# Altium footprint library Miscellaneous Devices.PcbLib: 155 footprints (part 2 of 10)
Each footprint in its own frame and in the unit in brackets; x right, y up, seen from the top. Pads: shape width x height; smd on the part's side, far side on the other; paste and mask are expansions set on the pad; w line width, h text height; cw(c..) or ccw(c..) is an arc to the next point about the centre after c.
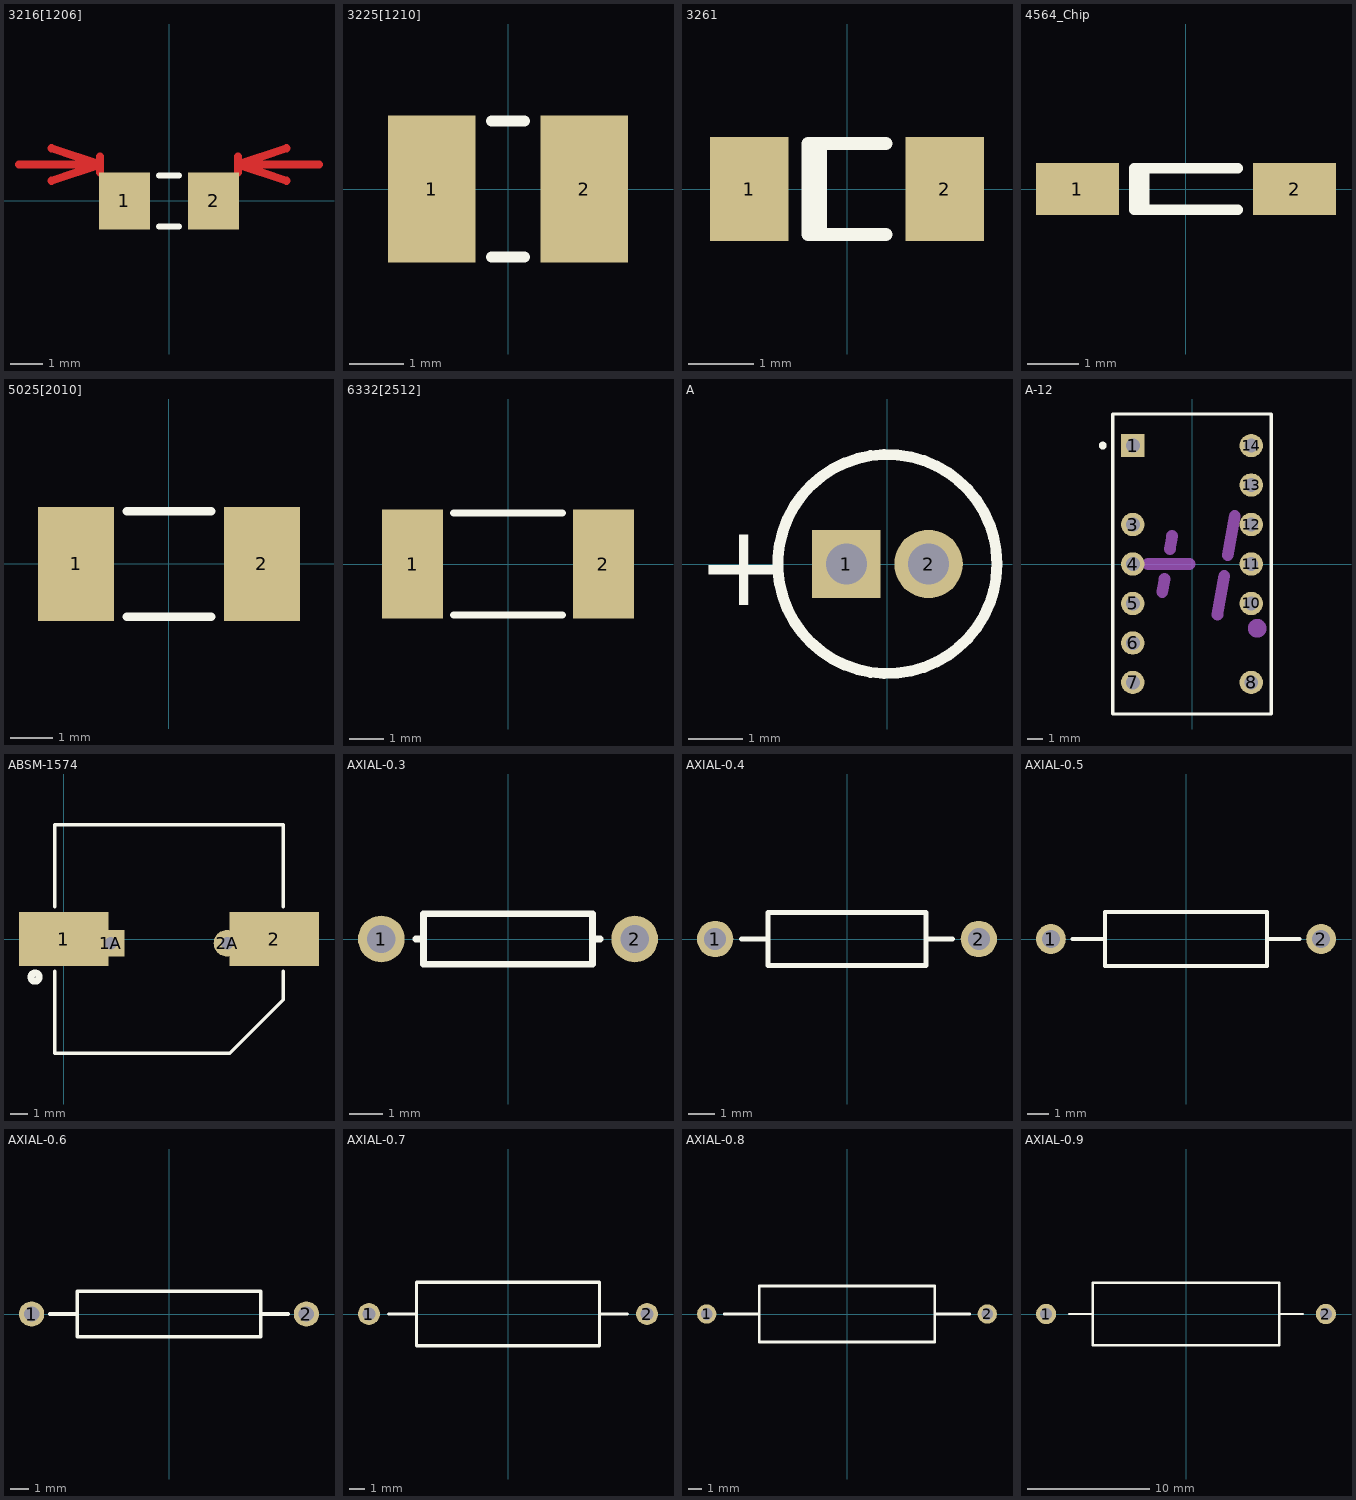
[diagram p1: the footprints below, top view; thin cyan lines are the x and y axes]

## 3216[1206] [mm] "Chip Resistor; Body 3.2 x 1.6 mm (LxW typ)"
height 2.54
pads (2):
  rect 1.6x1.8 smd: 1(-1.4,0) 2(1.4,0)
Top Layer:
  lines w0.254: -4.699,1.143 -2.159,1.143 ; -3.683,0.635 -2.159,1.143 ; -3.683,1.651 -2.159,1.143 ; -2.159,0.889 -2.159,1.397 ; 2.159,0.889 2.159,1.397 ; 3.683,0.635 2.159,1.143 ; 3.683,1.651 2.159,1.143 ; 4.699,1.143 2.159,1.143
  text "170 (mil)" at -5.993,-2.514 h1.52
Top Overlay:
  lines w0.2: -0.3,-0.8 0.3,-0.8 ; -0.3,0.8 0.3,0.8

## 3225[1210] [mm] "Chip Resistor; Body 3.2 x 2.5 mm (LxW typ)"
height 0.6
pads (2):
  rect 1.6x2.7 smd: 1(-1.4,0) 2(1.4,0)
Top Overlay:
  lines w0.2: -0.3,-1.25 0.3,-1.25 ; -0.3,1.25 0.3,1.25

## 3261 [mm] "3216 Chip; Chip Inductor; Body 3.2 x 1.6 mm (LxW typ)"
height 0.55
pads (2):
  rect 1.2x1.6 smd: 1(-1.5,0) 2(1.5,0)
Top Overlay:
  lines w0.2: -0.41,-0.7 -0.41,0.7 ; 0.6,-0.7 -0.6,-0.7 -0.6,0.7 0.6,0.7

## 4564_Chip [mm] "4564 Chip; Chip Inductor; Body 4.5 x 6.4 mm (LxW typ)"
height 0.55
pads (2):
  rect 1.6x1 smd: 1(-2.1,0) 2(2.1,0)
Top Overlay:
  lines w0.2: -0.81,-0.4 -0.81,0.4 ; 1,-0.4 -1,-0.4 -1,0.4 1,0.4

## 5025[2010] [mm] "Chip Resistor; Body 5.0 x 2.5 mm (LxW typ)"
height 0.6
pads (2):
  rect 1.8x2.7 smd: 1(-2.2,0) 2(2.2,0)
Top Overlay:
  lines w0.2: -1,-1.25 1,-1.25 ; -1,1.25 1,1.25

## 6332[2512] [mm] "Chip Resistor; Body 6.3 x 3.2 mm (LxW typ)"
height 0.6
pads (2):
  rect 1.8x3.2 smd: 1(-2.8,0) 2(2.8,0)
Top Overlay:
  lines w0.2: -1.6,-1.5 1.6,-1.5 ; -1.6,1.5 1.6,1.5

## A [mm] "Capacitor, Electrolytic, Radial; Body 4 x 5 mm (Dia.xH typ); Pin Spacing 1.5 mm (typ)"
pads (2):
  rect 1.25x1.25 hole 0.75: 1(-0.75,0)
  round 1.25 hole 0.75: 2(0.75,0)
Top Overlay:
  circle w0.2: c0,0 r2
  text "+" at -3.475,-0.75 h1.5

## A-12 [mm] "LED, Universal ±1 Overflow, 7.62 mm, RHD; 14 Leads (2 Absent); Row Space 7.62 mm; Pitch 2.54 mm"
height 6.35
pads (12):
  rect 1.5x1.5 hole 0.9: 1(-3.81,7.62)
  round 1.5 hole 0.9: 3(-3.81,2.54) 4(-3.81,0) 5(-3.81,-2.54) 6(-3.81,-5.08) 7(-3.81,-7.62) 8(3.81,-7.62) 10(3.81,-2.54) 11(3.81,0) 12(3.81,2.54) 13(3.81,5.08) 14(3.81,7.62)
Top Overlay:
  circle w0.25: c-5.75,7.62 r0.125
  lines w0.2: -5.1,-9.65 5.1,-9.65 5.1,9.65 -5.1,9.65 -5.1,-9.65
Mechanical 1:
  circle w0.86: c4.19,-4.139 r0.17
  lines w0.762: -2.83,0 -0.17,0 ; -1.911,-1.799 -1.764,-0.962 ; -1.427,0.961 -1.28,1.8 ; 1.63,-3.262 2.071,-0.764 ; 2.303,0.565 2.747,3.084

## ABSM-1574 [mm] "Magnetic Transducer Buzzer"
pads (4):
  rect 5x3 smd: 1(0,0) 2(11.8,0)
  rect 1.5x1.5 hole 0.7: 1A(2.65,-0.24)
  round 1.5 hole 0.7: 2A(9.15,-0.24)
Top Overlay:
  circle w0.4: c-1.6,-2.134 r0.227
  lines w0.2: -0.5,-1.8 -0.5,-6.4 9.3,-6.4 12.3,-3.4 12.3,-1.8 ; -0.5,1.8 -0.5,6.4 12.3,6.4 12.3,1.8

## AXIAL-0.3 [mm] "Resistor; 2 Leads"
height 1.524
pads (2):
  round 1.4 hole 0.85: 1(-3.81,0) 2(3.81,0)
Top Overlay:
  lines w0.2: -2.769,0 -2.54,0 ; 2.769,0 2.54,0 ; 2.54,0 2.54,-0.762 -2.54,-0.762 -2.54,0.762 2.54,0.762 2.54,0

## AXIAL-0.4 [mm] "Resistor; 2 Leads"
height 2.032
pads (2):
  round 1.4 hole 0.85: 1(-5.08,0) 2(5.08,0)
Top Overlay:
  lines w0.2: -4.064,0 -3.048,0 ; 3.048,0 4.064,0 ; -3.048,-1.016 3.048,-1.016 3.048,1.016 -3.048,1.016 -3.048,-1.016

## AXIAL-0.5 [mm] "Semiconductor Resistor; 2 Leads"
height 2.54
pads (2):
  round 1.4 hole 0.85: 1(-6.35,0) 2(6.35,0)
Top Overlay:
  lines w0.2: -5.334,0 -3.81,0 ; 3.81,0 5.334,0 ; -3.81,-1.27 -3.81,1.27 3.81,1.27 3.81,-1.27 -3.81,-1.27

## AXIAL-0.6 [mm] "Variable Resistor; 2 Leads"
height 2.54
pads (2):
  round 1.4 hole 0.85: 1(-7.62,0) 2(7.62,0)
Top Overlay:
  lines w0.2: -6.604,0 -5.08,0 ; 5.08,0 6.604,0 ; -5.08,-1.27 -5.08,1.27 5.08,1.27 5.08,-1.27 -5.08,-1.27

## AXIAL-0.7 [mm] "Variable Resistor; 2 Leads"
height 4.064
pads (2):
  round 1.4 hole 0.85: 1(-8.89,0) 2(8.89,0)
Top Overlay:
  lines w0.2: -7.62,0 -5.842,0 ; 5.842,0 7.62,0 ; -5.842,-2.032 5.842,-2.032 5.842,2.032 -5.842,2.032 -5.842,-2.032

## AXIAL-0.8 [mm] "Adjustable Inductor; 2 Leads"
height 4.064
pads (2):
  round 1.4 hole 0.85: 1(-10.16,0) 2(10.16,0)
Top Overlay:
  lines w0.2: -8.89,0 -6.35,0 ; 6.35,0 8.89,0 ; -6.35,-2.032 -6.35,2.032 6.35,2.032 6.35,-2.032 -6.35,-2.032

## AXIAL-0.9 [mm] "Magnetic-Core Inductor; 2 Leads"
height 5.08
pads (2):
  round 1.65 hole 1: 1(-11.43,0) 2(11.43,0)
Top Overlay:
  lines w0.2: -9.525,0 -7.62,0 ; 7.62,0 9.525,0 ; -7.62,-2.54 7.62,-2.54 7.62,2.54 -7.62,2.54 -7.62,-2.54